# Altium schematic symbol library SCH - PASSIVES - TRIMMER CAPACITOR.SCHLIB: 1 symbol
Pins are listed as number, name and electrical type; pins without a type are passive.

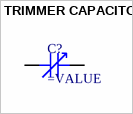
[diagram p0: symbol TRIMMER CAPACITOR]

## TRIMMER CAPACITOR
designator C?
SMT Capacitor
pins: 1, 2